# EAGLE library part ELLA-W1X1 (library ublox)
ELLA-W1x1: Host-based multiradio module with 802.11a/b/g/ Wi-Fi and Bluetooth 3.0+HS - ELLA-W131 - ELLA-W161 u-blox.com
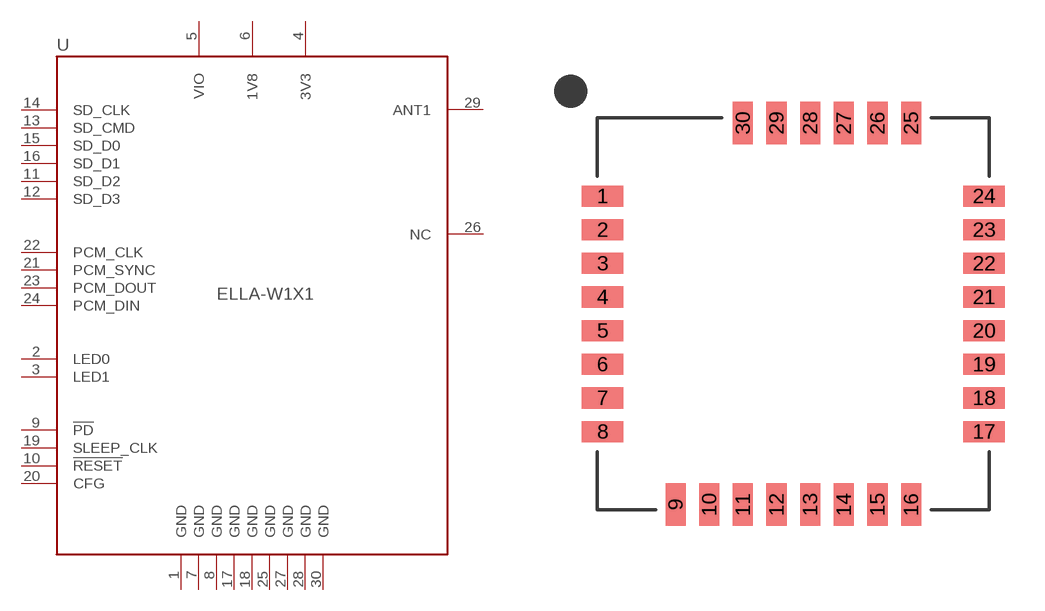
[diagram p4: symbol with the pads of ELLA-30; footprint ELLA-30]

Designator prefix U

## ELLA-W1X1  [ELLA-30]
1  GND  pwr
2  LED0
3  LED1
4  3V3  pwr
5  VIO  pwr
6  1V8  pwr
7  GND  pwr
8  GND  pwr
9  !PD  in
10  !RESET  in
11  SD_D2
12  SD_D3
13  SD_CMD
14  SD_CLK  in
15  SD_D0
16  SD_D1
17  GND  pwr
18  GND  pwr
19  SLEEP_CLK  in
20  CFG  in
21  PCM_SYNC
22  PCM_CLK
23  PCM_DOUT  out
24  PCM_DIN  in
25  GND  pwr
26  NC  nc
27  GND  pwr
28  GND  pwr
29  ANT1
30  GND  pwr

## Footprint ELLA-30 (pad centres in mm)
ELLA-W1: Castellated Package 30 Pin u-blox.com
smd 1.6 x 0.8: 1 -7.2,4.445; 2 -7.2,3.175; 3 -7.2,1.905; 4 -7.2,0.635; 5 -7.2,-0.635; 6 -7.2,-1.905; 7 -7.2,-3.175; 8 -7.2,-4.445; 17 7.2,-4.445; 18 7.2,-3.175; 19 7.2,-1.905; 20 7.2,-0.635; 21 7.2,0.635; 22 7.2,1.905; 23 7.2,3.175; 24 7.2,4.445
smd 0.8 x 1.6: 9 -4.445,-7.2; 10 -3.175,-7.2; 11 -1.905,-7.2; 12 -0.635,-7.2; 13 0.635,-7.2; 14 1.905,-7.2; 15 3.175,-7.2; 16 4.445,-7.2; 25 4.445,7.2; 26 3.175,7.2; 27 1.905,7.2; 28 0.635,7.2; 29 -0.635,7.2; 30 -1.905,7.2